# Altium footprint library SOD87_MLL41.PcbLib: 1 footprints
Each footprint in its own frame and in the unit in brackets; x right, y up, seen from the top. Pads: shape width x height; smd on the part's side, far side on the other; paste and mask are expansions set on the pad; w line width, h text height; cw(c..) or ccw(c..) is an arc to the next point about the centre after c.
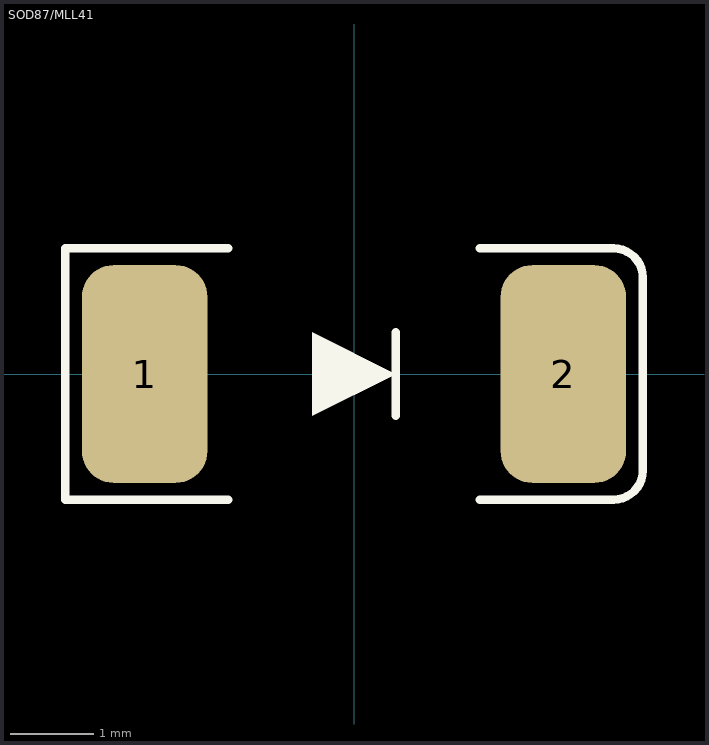
[diagram p0: the footprint, top view; thin cyan lines are the x and y axes]

## SOD87/MLL41 [mm]
pads (2):
  rrect50% 1.5x2.6 smd: 1(-2.5,0) 2(2.5,0)
Top Overlay:
  region: -0.5,0.5 0.5,0 -0.5,-0.5
  lines w0.1: -1.5,-1.5 -3.45,-1.5 -3.45,1.5 -1.5,1.5 ; 0.5,-0.5 0.5,0.5 ; 1.5,-1.5 3.1,-1.5 ; 1.5,1.5 3.1,1.5 cw(c3.1,1.15) 3.45,1.15 3.45,-1.15 cw(c3.1,-1.15) 3.1,-1.5 ; 3.1,-1.5 3.1,-1.5
3D body "Melf (5025) SM1-LL41-DO213AB.STEP": height 2.5, standoff 0, extent -2.5,-1.25 2.5,1.25